# Altium footprint library AMPHENOL_RJHSE538B.PcbLib: 1 footprints
Each footprint in its own frame and in the unit in brackets; x right, y up, seen from the top. Pads: shape width x height; smd on the part's side, far side on the other; paste and mask are expansions set on the pad; w line width, h text height; cw(c..) or ccw(c..) is an arc to the next point about the centre after c.
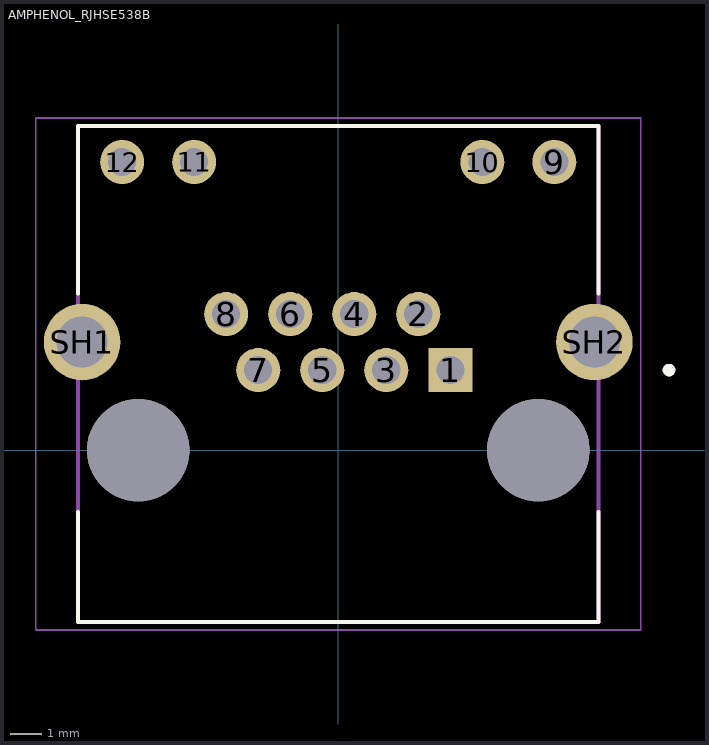
[diagram p0: the footprint, top view; thin cyan lines are the x and y axes]

## AMPHENOL_RJHSE538B [mm]
height 15.14
pads (16):
  rect 1.398x1.398 / inner round 1.398 / far side rect 1.398x1.398 hole 0.89: 1(3.556,2.54)
  round 1.398 hole 0.89: 2(2.54,4.318) 3(1.524,2.54) 4(0.508,4.318) 5(-0.508,2.54) 6(-1.524,4.318) 7(-2.54,2.54) 8(-3.556,4.318) 9(6.858,9.144) 10(4.572,9.144) 11(-4.572,9.144) 12(-6.858,9.144)
  round 2.43 hole 1.62: SH1(-8.128,3.429) SH2(8.128,3.429)
  round 3.25 hole 3.25 unplated: ""(-6.35,0) ""(6.35,0)
Top Overlay:
  circle w0.2: c10.5,2.54 r0.1
  lines w0.127: -8.255,-1.97 -8.255,-5.46 8.255,-5.46 8.255,-1.97 ; -8.255,4.968 -8.255,10.29 8.255,10.29 8.255,4.968
Mechanical 13:
  circle w0.2: c10.5,2.54 r0.1
  lines w0.127: -8.255,-5.46 -8.255,10.29 8.255,10.29 8.255,-5.46 -8.255,-5.46
Mechanical 15:
  lines w0.05: -9.6,-5.71 9.6,-5.71 9.6,10.54 -9.6,10.54 -9.6,-5.71
3D body "RJ45_Amphenol_RJHSE538X.step": height 15.5, standoff -3.18, extent -8.255,-5.763 8.255,10.287